# EAGLE library part CON-10 (library satellite)
CONNECTOR wire to board 2.54 mm (0.100") pitch header
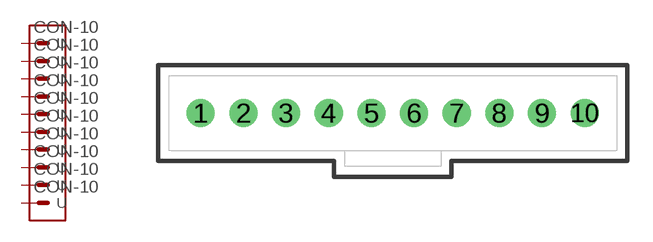
[diagram p19: symbol with the pads of 70543-10; footprint 70543-10]

Designator prefix -

## CON-10  [70543-10]
1  SS1  pas
2  SS2  pas
3  SS3  pas
4  SS4  pas
5  SS5  pas
6  SS6  pas
7  SS7  pas
8  SS8  pas
9  SS9  pas
10  SS10  pas

## Footprint 70543-10 (pad centres in mm)
drill 0.9 pad 1.676 round: 1 -11.43,0; 2 -8.89,0; 3 -6.35,0; 4 -3.81,0; 5 -1.27,0; 6 1.27,0; 7 3.81,0; 8 6.35,0; 9 8.89,0; 10 11.43,0